# Altium footprint library DROD.PcbLib: 6 footprints
Each footprint in its own frame and in the unit in brackets; x right, y up, seen from the top. Pads: shape width x height; smd on the part's side, far side on the other; paste and mask are expansions set on the pad; w line width, h text height; cw(c..) or ccw(c..) is an arc to the next point about the centre after c.
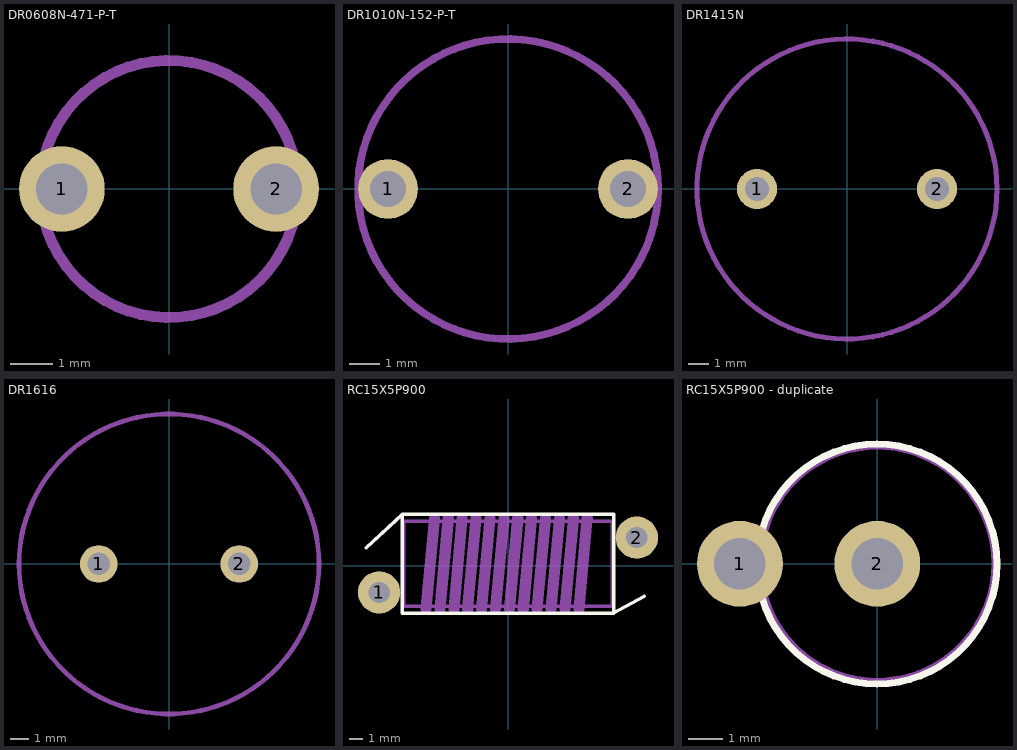
[diagram p0: the footprints below, top view; thin cyan lines are the x and y axes]

## DR0608N-471-P-T [mm]
pads (2):
  round 2 hole 1.2: 1(-2.5,0) 2(2.5,0)
Top Assembly:
  circle w0.254: c0,0 r3
3D body "69417.stp": height 8.25, standoff -4.25, extent -3.9,-3.9 3.9,3.9

## DR1010N-152-P-T [mm]
pads (2):
  round 2 hole 1.2: 1(-4,0) 2(4,0)
Top Assembly:
  circle w0.254: c0,0 r5
3D body: height 11, standoff 0.2, extent -4,-4 4,4
3D body: height 2.2, standoff 0.2, extent -5.5,-5.5 5.5,5.5
3D body: height 11, standoff 9, extent -5.5,-5.5 5.5,5.5

## DR1415N [mm]
pads (2):
  round 2 hole 1.2: 1(-4.5,0) 2(4.5,0)
Top Assembly:
  circle w0.254: c0,0 r7.5
3D body: height 15, standoff 0.2, extent -5,-5 5,5
3D body: height 3, standoff 0.2, extent -7.5,-7.5 7.5,7.5
3D body: height 15, standoff 12, extent -7,-7 7,7

## DR1616 [mm]
pads (2):
  round 2 hole 1.2: 1(-3.75,0) 2(3.75,0)
Top Assembly:
  circle w0.254: c0,0 r8
3D body: height 15, standoff 0.2, extent -5,-5 5,5
3D body: height 3, standoff 0, extent -8,-8 8,8
3D body: height 15, standoff 12, extent -8,-8 8,8

## RC15X5P900 [mil]
pads (2):
  round 120 hole 60: 1(-365,-75) 2(365,80)
Top Overlay:
  lines w10: -401.57,51.18 -299.21,145.67 ; 385.83,-86.61 299.21,-133.86 ; -299.21,145.67 -299.21,-133.86 299.21,-133.86 ; -299.21,145.67 299.21,145.67 299.21,-133.86
Top Assembly:
  lines w10: -295.28,-114.17 -295.28,125.98 295.28,125.98 295.28,-114.17 -295.28,-114.17
  lines w31.5: -232.28,-122.05 -208.66,133.86 ; -192.91,-122.05 -169.29,133.86 ; -153.54,-122.05 -129.92,133.86 ; -114.17,-122.05 -90.55,133.86 ; -74.8,-122.05 -51.18,133.86 ; -35.43,-122.05 -11.81,133.86 ; 3.94,-122.05 27.56,133.86 ; 43.31,-122.05 66.93,133.86 ; 82.68,-122.05 106.3,133.86 ; 122.05,-122.05 145.67,133.86 ; 161.42,-122.05 185.04,133.86 ; 200.79,-122.05 224.41,133.86
3D body "User Library-2929SQ-391GEB.step": height 324.8, standoff 9.84, extent -262.21,-147.64 242.51,166.53
3D body: height 314.84, standoff 39.49, extent -265.74,-127.95 236.22,147.64

## RC15X5P900 - duplicate [mm]
pads (2):
  round 2.5 hole 1.5: 1(-4,0) 2(0,0)
Top Overlay:
  circle w0.2: c-0.007,-0.008 r3.493
Top Assembly:
  lines w0.1: 3.371,0.001 cw(c0,0) 3.371,0.007
3D body: height 15, standoff 0, extent -4,-3.997 4,3.997